# Altium schematic symbol library Simbologia.SchLib: 13 symbols
Pins are listed as number, name and electrical type; pins without a type are passive.

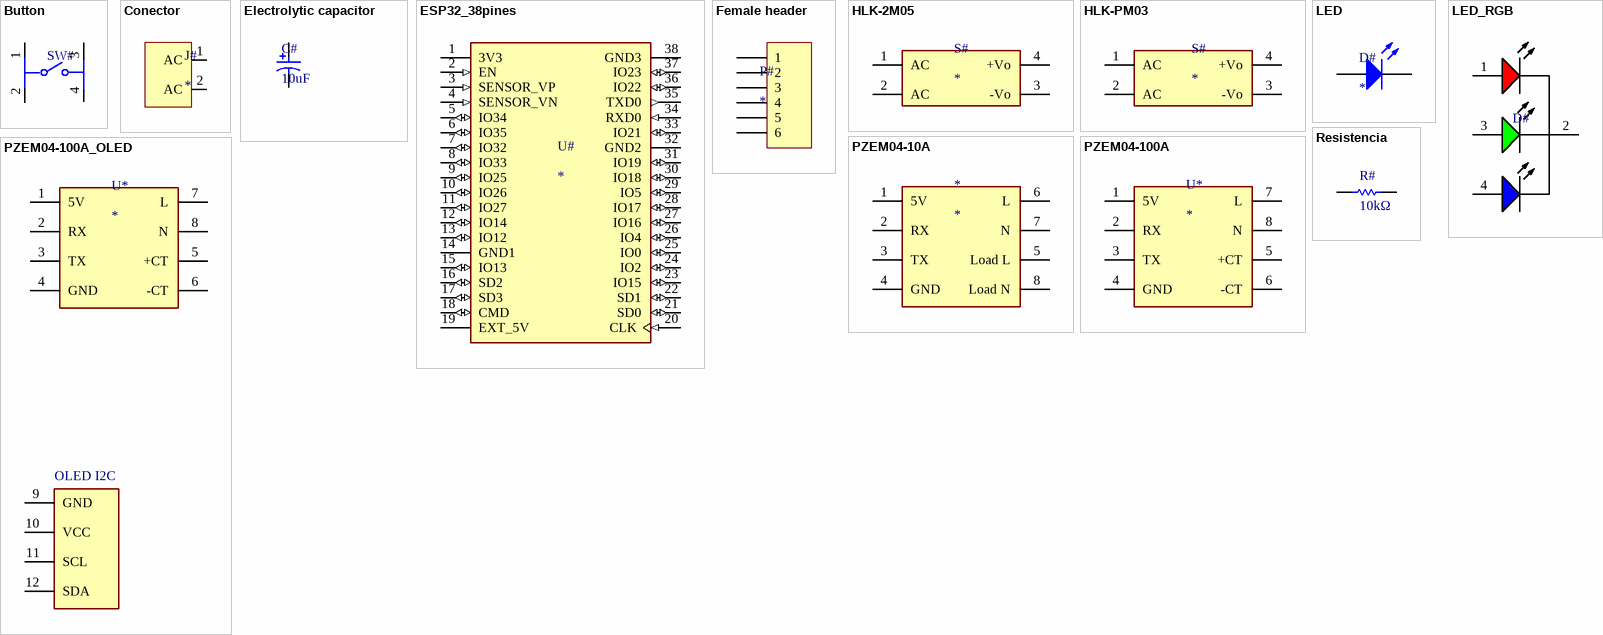
[diagram p0: symbols Button to Resistencia]

## Button
designator SW#  (value not drawn)
Button PCB
footprint FP-BUTTON
pins: 1, 2, 3, 4

## Conector
designator J#
footprint FP-CONECTOR_2
pins: 1 AC, 2 AC

## Electrolytic capacitor
designator C#, comment 10uF
footprint FP-CAPACITOR
pins: 1, 2

## ESP32_38pines
designator U#
footprint FP-ESP32-38P
pins: 1 3V3 (power), 2 EN (in), 3 SENSOR_VP (in), 4 SENSOR_VN (in), 5 IO34 (io), 6 IO35 (io), 7 IO32 (io), 8 IO33 (io), 9 IO25 (io), 10 IO26 (io), 11 IO27 (io), 12 IO14 (io), 13 IO12 (io), 14 GND1 (power), 15 IO13 (io), 16 SD2 (io), 17 SD3 (io), 18 CMD (io), 19 EXT_5V (power), 20 CLK (in), 21 SD0 (io), 22 SD1 (io), 23 IO15 (io), 24 IO2 (io), 25 IO0 (io), 26 IO4 (io), 27 IO16 (io), 28 IO17 (io), 29 IO5 (io), 30 IO18 (io), 31 IO19 (io), 32 GND2 (power), 33 IO21 (io), 34 RXD0 (in), 35 TXD0 (out), 36 IO22 (io), 37 IO23 (io), 38 GND3 (power)

## Female header
designator P#
footprint FP-HEADER6
pins: 1, 2, 3, 4, 5, 6

## HLK-2M05
designator S#
HLK-2M05  100-240vac 5V
footprint FP-HLK-PW12
pins: 1 AC (power), 2 AC (power), 3 -Vo (power), 4 +Vo (power)

## HLK-PM03
designator S#
100-240V a 3.3V
footprint FP-HLK-PW12
pins: 1 AC (power), 2 AC (power), 3 -Vo (power), 4 +Vo (power)

## LED
designator D#
footprint FP-LED
pins: 1 A, 2 K

## LED_RGB
designator D#  (value not drawn)
LED RGB CATODO COMUN (-)
footprint FP-LED-RGB
pins: 1 RED, 2 CATHODE, 3 BLUE, 4 GREEN

## PZEM04-10A
designator *
footprint FP-PZEM-004-10A
pins: 1 5V (power), 2 RX (power), 3 TX (power), 4 GND (power), 5 Load L (power), 6 L (power), 7 N (power), 8 Load N (power)

## PZEM04-100A
designator U*
Sensor Pzem004 Version 100A
footprint FP-PZEM-004-100A
footprint MODULO-PZEM-004-100A
pins: 1 5V (power), 2 RX (power), 3 TX (power), 4 GND (power), 5 +CT (power), 6 -CT (power), 7 L (power), 8 N (power)

## PZEM04-100A_OLED
designator U*
Sensor Pzem004 Version 100A / OLED I2C 0.96
footprint PZEM100A-OLED
footprint PZEM100A-OLED - 2
pins: 1 5V (power), 2 RX (power), 3 TX (power), 4 GND (power), 5 +CT (power), 6 -CT (power), 7 L (power), 8 N (power), 9 GND (power), 10 VCC (power), 11 SCL (power), 12 SDA (power)
text: OLED I2C

## Resistencia
designator R#, comment 10kΩ
footprint FP-RESISTENCIA
pins: 1, 2